# EAGLE library part GD25B64CWAG (library mmWAVE)
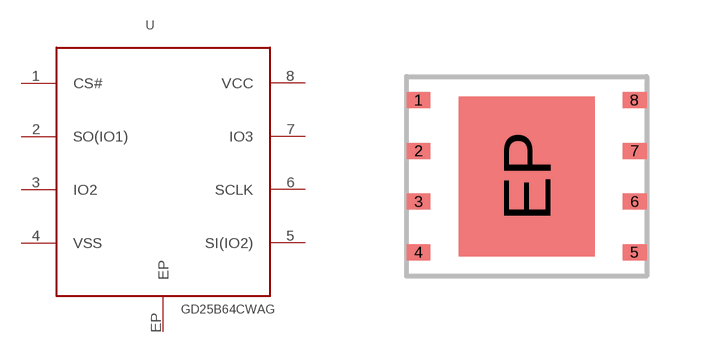
[diagram p10: symbol with the pads of WSON8; footprint WSON8]

Designator prefix -

## GD25B64CWAG  [WSON8]
1  CS#
2  SO(IO1)
3  IO2
4  VSS
5  SI(IO2)
6  SCLK
7  IO3
8  VCC
EP  EP

## Footprint WSON8 (pad centres in mm)
smd 0.6 x 0.4: 1 -2.7,1.905; 2 -2.7,0.635; 3 -2.7,-0.635; 4 -2.7,-1.905; 5 2.7,-1.905; 6 2.7,-0.635; 7 2.7,0.635; 8 2.7,1.905
smd 3.4 x 4: EP 0,0